# EAGLE library part MOSFET-VISHAY-SQ1420EEH (library Pygmy)
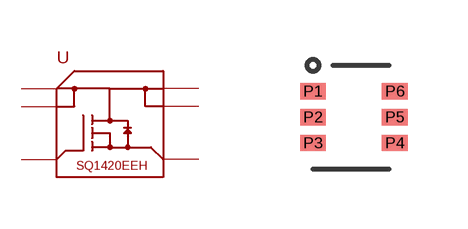
[diagram p87: symbol with the pads of SC-70-6; footprint SC-70-6]

Designator prefix -

## MOSFET-VISHAY-SQ1420EEH  [SC-70-6]
P1  D1
P2  D2
P3  G
P4  S
P5  D3
P6  D4

## Footprint SC-70-6 (pad centres in mm)
smd 0.648 x 0.406: P1 0,0.648; P2 0,0; P3 0,-0.648; P4 2.048,-0.648; P5 2.048,0; P6 2.048,0.648